# EAGLE library part 310990001_ADC121C021CIMM (library Seeed-OPL-2017-01-IC-Akita)
TI;ADC121C021CIMM/NOPB, SMD 12-Bit Analog-to-Digital, SKU: 310990001
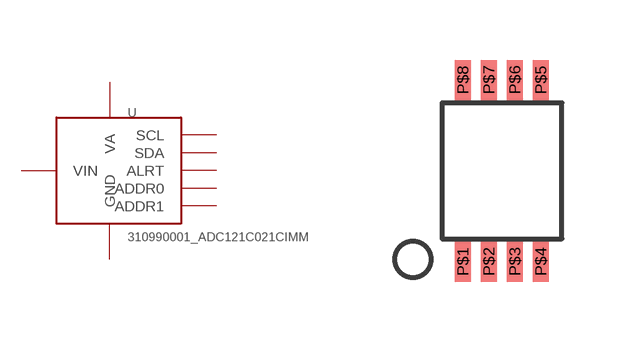
[diagram p13: symbol with the pads of VSSOP8; footprint VSSOP8]

Designator prefix U

## 310990001_ADC121C021CIMM  [VSSOP8]
P$1  SCL
P$2  ALRT
P$3  ADDR0
P$4  VIN
P$5  VA  pwr
P$6  ADDR1
P$7  GND  pwr
P$8  SDA

## Footprint VSSOP8 (pad centres in mm)
VSSOP8, 0.5mm
smd 0.4 x 1: P$1 -0.975,-2.275; P$2 -0.325,-2.275; P$3 0.325,-2.275; P$4 0.975,-2.275; P$5 0.975,2.275; P$6 0.325,2.275; P$7 -0.325,2.275; P$8 -0.975,2.275